# Altium schematic symbol library Add_lib.SchLib: 7 symbols
Pins are listed as number, name and electrical type; pins without a type are passive.

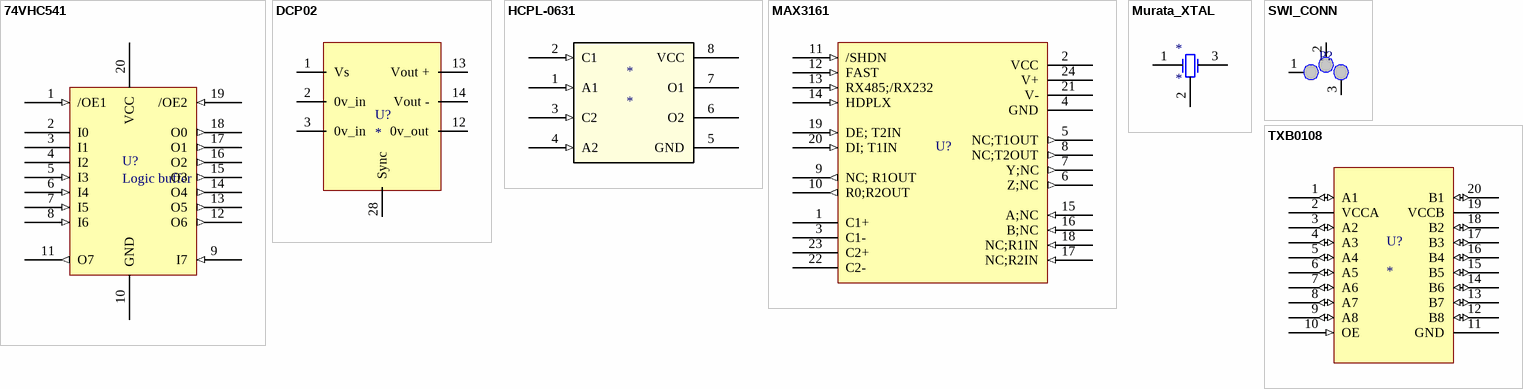
[diagram p0: symbols 74VHC541 to TXB0108]

## 74VHC541
designator U?, comment Logic buffer
pins: 1 /OE1 (in), 2 I0, 3 I1, 4 I2, 5 I3 (in), 6 I4 (in), 7 I5 (in), 8 I6 (in), 9 I7 (in), 10 GND, 11 O7 (out), 12 O6 (out), 13 O5 (out), 14 O4 (out), 15 O3 (out), 16 O2 (out), 17 O1 (out), 18 O0 (out), 19 /OE2 (in), 20 VCC

## DCP02
designator U?
DC-DC Converter
footprint SOP127P1020X280-28M (SOP, 28-Leads, Body 18,0x8,0mm (max), Pitch 1,27mm, IPC Low Density)
pins: 1 Vs (power), 2 0v_in, 3 0v_in, 12 0v_out, 13 Vout +, 14 Vout -, 28 Sync

## HCPL-0631
designator *
pins: 1 A1 (in), 2 C1 (in), 3 C2 (in), 4 A2 (in), 5 GND (power), 6 O2 (oc), 7 O1 (oc), 8 VCC (power)

## MAX3161
designator U?  (value not drawn)
Multitrancivier
footprint DB024 (SSOP, Plastic; 24 Leads; Body Width 5.3 mm; Pitch 0.65 mm)
pins: 1 C1+, 2 VCC, 3 C1-, 4 GND, 5 NC;T1OUT (out), 6 Z;NC (out), 7 Y;NC (out), 8 NC;T2OUT (out), 9 NC; R1OUT (out), 10 R0;R2OUT (out), 11 /SHDN (in), 12 FAST (in), 13 RX485;/RX232 (in), 14 HDPLX (in), 15 A;NC (in), 16 B;NC (in), 17 NC;R2IN (in), 18 NC;R1IN (in), 19 DE; T2IN (in), 20 DI; T1IN (in), 21 V-, 22 C2-, 23 C2+, 24 V+

## Murata_XTAL
designator *
footprint XTAL16MHz
pins: 1, 2, 3

## SWI_CONN
designator P?  (value not drawn)
footprint SW_SPDT
pins: 1, 2, 3

## TXB0108
designator U?
footprint TSOP65P640X120-20N (TSOP, 20-Leads, Body 6,6x4,5mm (max), Pitch 0,65mm, IPC Medium Density)
pins: 1 A1 (io), 2 VCCA, 3 A2 (io), 4 A3 (io), 5 A4 (io), 6 A5 (io), 7 A6 (io), 8 A7 (io), 9 A8 (io), 10 OE (in), 11 GND, 12 B8 (io), 13 B7 (io), 14 B6 (io), 15 B5 (io), 16 B4 (io), 17 B3 (io), 18 B2 (io), 19 VCCB, 20 B1 (io)